# EAGLE library part BASIC_ROM (library atari)
8K x 8 ROM
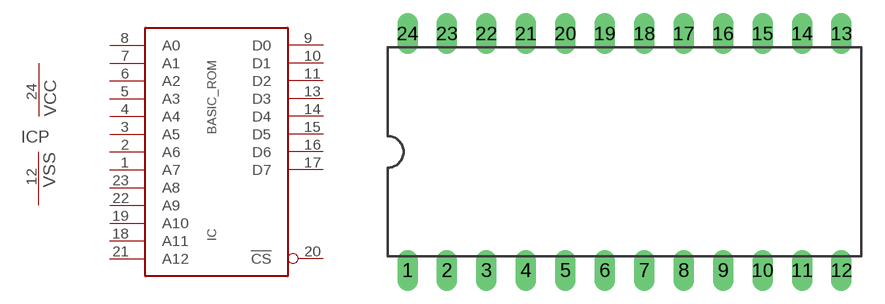
[diagram p10: symbol with the pads of DIL24; footprint DIL24]

Designator prefix IC; gates =BASIC_ROM P=VCCVSS

## BASIC_ROM  [DIL24]
1  :A7  in
2  :A6  in
3  :A5  in
4  :A4  in
5  :A3  in
6  :A2  in
7  :A1  in
8  :A0  in
9  :D0  out
10  :D1  out
11  :D2  out
12  P:VSS  pwr
13  :D3  out
14  :D4  out
15  :D5  out
16  :D6  out
17  :D7  out
18  :A11  in
19  :A10  in
20  :!CS  in
21  :A12  in
22  :A9  in
23  :A8  in
24  P:VCC  pwr

## Footprint DIL24 (pad centres in mm)
drill 0.813 long: 1 -13.97,-7.62; 2 -11.43,-7.62; 3 -8.89,-7.62; 4 -6.35,-7.62; 5 -3.81,-7.62; 6 -1.27,-7.62; 7 1.27,-7.62; 8 3.81,-7.62; 9 6.35,-7.62; 10 8.89,-7.62; 11 11.43,-7.62; 12 13.97,-7.62; 13 13.97,7.62; 14 11.43,7.62; 15 8.89,7.62; 16 6.35,7.62; 17 3.81,7.62; 18 1.27,7.62; 19 -1.27,7.62; 20 -3.81,7.62; 21 -6.35,7.62; 22 -8.89,7.62; 23 -11.43,7.62; 24 -13.97,7.62